# Altium footprint library CartSimple.PCBLIB: 166 footprints (part 5 of 11)
Each footprint in its own frame and in the unit in brackets; x right, y up, seen from the top. Pads: shape width x height; smd on the part's side, far side on the other; paste and mask are expansions set on the pad; w line width, h text height; cw(c..) or ccw(c..) is an arc to the next point about the centre after c.
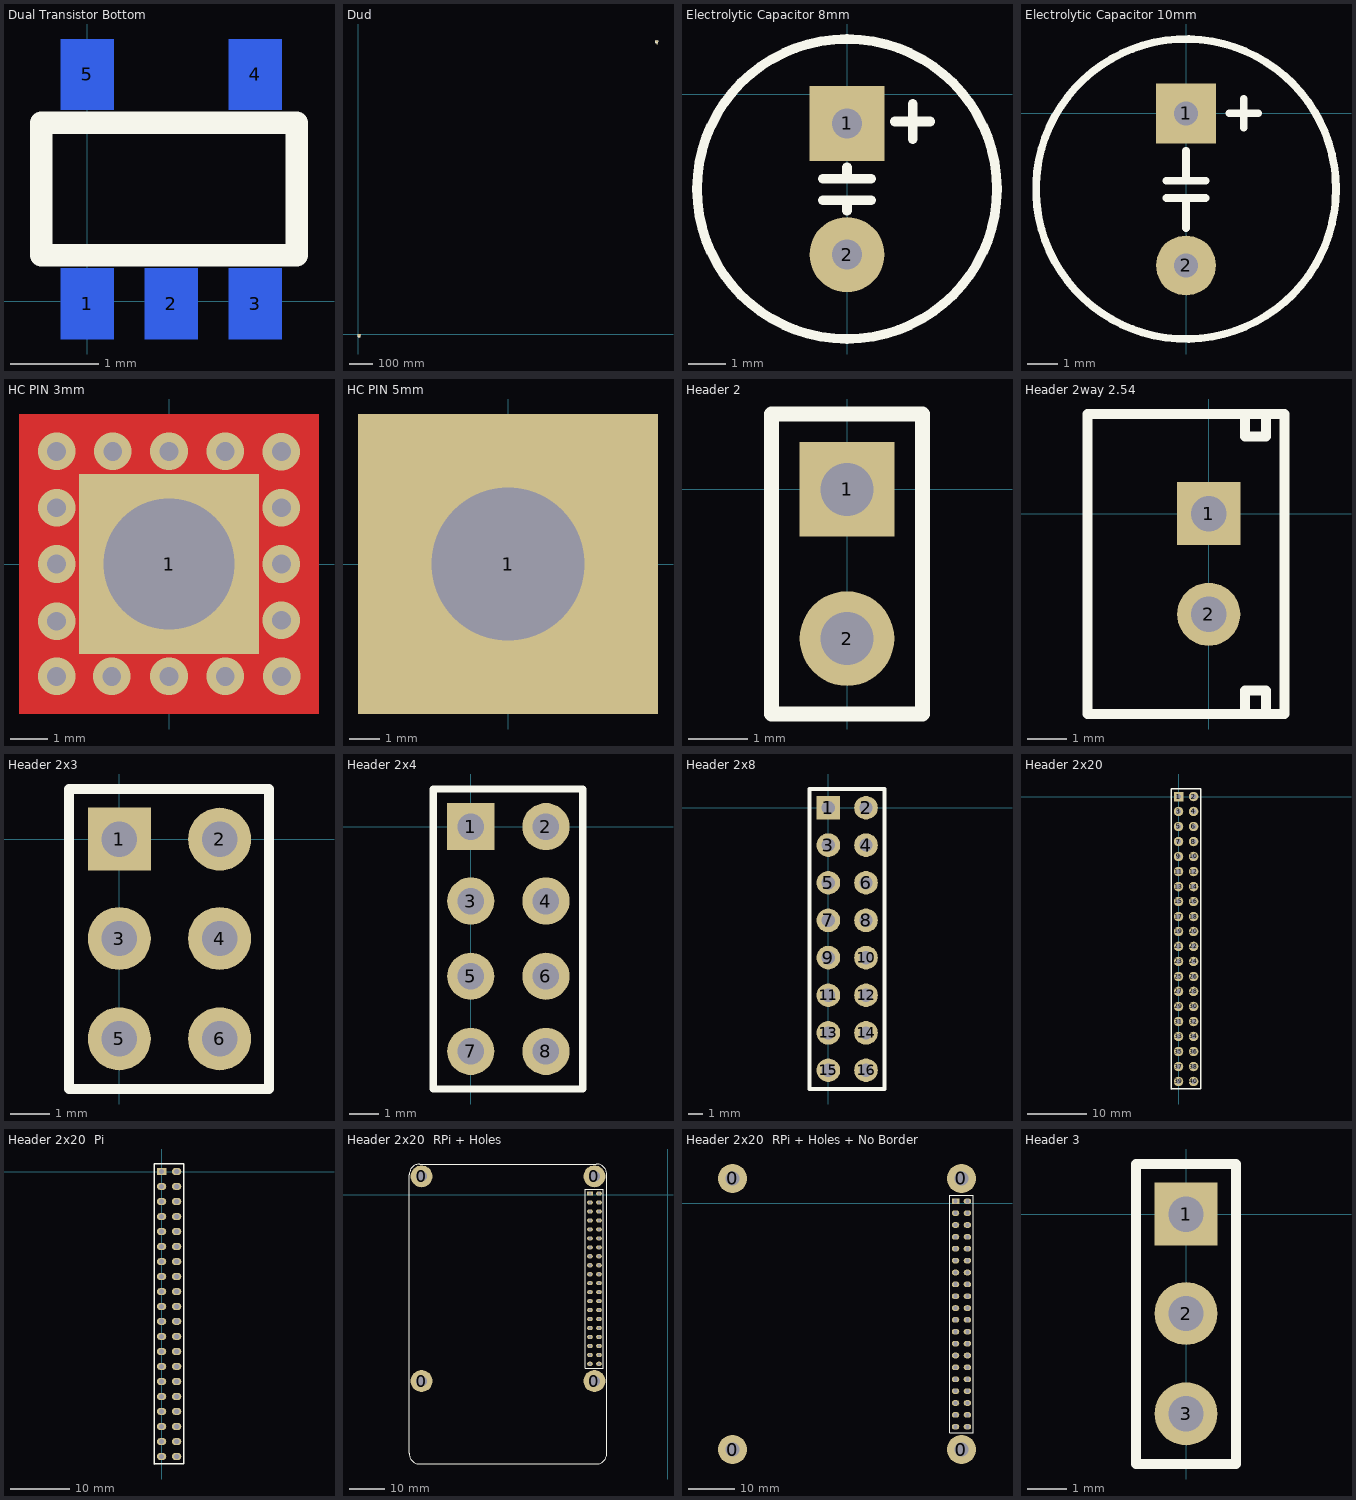
[diagram p4: the footprints below, top view; thin cyan lines are the x and y axes]

## Dual Transistor Bottom [mm]
pads (5):
  rect 0.6x0.8 smd far side: 1(0,-0.025) 2(0.95,-0.025) 3(1.9,-0.025) 4(1.9,2.575) 5(0,2.575)
Top Overlay:
  lines w0.254: -0.525,0.525 2.375,0.525 2.375,2.025 -0.525,2.025 -0.525,0.525

## Dud [mm]
pads (7):
  rect 1.5x4 smd: 1(2.45,-12.675) 1(1278.075,1243) 2(5,-12.675) 3(7.55,-12.675) 3(1283.175,1243)
  rect 10x8 smd: 2(1280.625,1254) 4(5,-4)
Top Overlay:
  lines w0.254: 0,-2.6 0.975,-2.6 0.975,-7.875 9.125,-7.875 9.125,-2.6 10,-2.6 ; 1275.625,1255.4 1276.6,1255.4 1276.6,1250.125 1284.75,1250.125 1284.75,1255.4 1285.625,1255.4 ; 0,-9.95 0,-0.95 10,-0.95 10,-9.95 0,-9.95 ; 1275.625,1248.05 1285.625,1248.05 1285.625,1257.05 1275.625,1257.05 1275.625,1248.05

## Electrolytic Capacitor 8mm [mm]
pads (2):
  rect 2x2 hole 0.8: 1(0,-0.775)
  round 2 hole 0.8: 2(0,-4.275)
Top Overlay:
  circle w0.254: c0,-2.525 r4
  lines w0.254: -0.65,-2.825 0.65,-2.825 ; -0.65,-2.25 0.65,-2.25 ; 0,-3.1 0,-2.825 ; 0,-2.25 0,-1.95 ; 1.275,-0.725 2.225,-0.725 ; 1.75,-1.2 1.75,-0.25

## Electrolytic Capacitor 10mm [mm]
pads (2):
  rect 2x2 hole 0.8: 1(0,0)
  round 2 hole 0.8: 2(0,-5.075)
Top Overlay:
  circle w0.254: c0,-2.525 r5
  lines w0.254: -0.65,-2.825 0.65,-2.825 ; -0.65,-2.25 0.65,-2.25 ; 0,-3.825 0,-2.825 ; 0,-2.25 0,-1.25 ; 1.45,0 2.4,0 ; 1.925,-0.475 1.925,0.475

## HC PIN 3mm [mm]
pads (1):
  rect 4.8x4.8 hole 3.5: 1(0,0)
via 1.5,-3 diameter 1 hole 0.5
via -1.525,-3 diameter 1 hole 0.5
via 0,-3 diameter 1 hole 0.5
via 3,-3 diameter 1 hole 0.5
via 3,0 diameter 1 hole 0.5
via 3,-1.5 diameter 1 hole 0.5
via -3,1.5 diameter 1 hole 0.5
via 0,3 diameter 1 hole 0.5
via 1.5,3 diameter 1 hole 0.5
via 3,1.5 diameter 1 hole 0.5
via 3,3 diameter 1 hole 0.5
via -1.5,3 diameter 1 hole 0.5
via -3,-3 diameter 1 hole 0.5
via -3,0 diameter 1 hole 0.5
via -3,3 diameter 1 hole 0.5
via -3,-1.525 diameter 1 hole 0.5
Top Layer:
  rectangle: -4,-4 4,4
Bottom Layer:
  rectangle: -4,-4 4,4
Top Overlay:
  lines w0.254: 3,-3 3,-3

## HC PIN 5mm [mm]
pads (1):
  rect 10x10 hole 5.1: 1(0,0)

## Header 2 [mm]
pads (2):
  rect 1.6x1.6 hole 0.9: 1(0,0)
  round 1.6 hole 0.9: 2(0,-2.525)
Top Overlay:
  lines w0.254: -1.275,-3.8 1.275,-3.8 1.275,1.275 -1.275,1.275 -1.275,-3.8

## Header 2way 2.54 [mm]
pads (2):
  rect 1.6x1.6 hole 0.9: 1(0,0)
  round 1.6 hole 0.9: 2(0,-2.55)
Top Overlay:
  lines w0.254: 0.925,-5.075 0.925,-4.475 1.45,-4.475 1.45,-5.075 ; 0.925,2.525 0.925,1.95 1.45,1.95 1.45,2.525 ; -3.075,-5.075 -3.075,2.525 1.925,2.525 1.925,-5.075 -3.075,-5.075

## Header 2x3 [mm]
pads (6):
  rect 1.6x1.6 hole 0.9: 1(0,0)
  round 1.6 hole 0.9: 2(2.55,0) 3(0,-2.525) 4(2.55,-2.525) 5(0,-5.075) 6(2.55,-5.075)
Top Overlay:
  lines w0.254: -1.275,-6.35 -1.275,1.275 3.8,1.275 3.8,-6.35 -1.275,-6.35

## Header 2x4 [mm]
pads (8):
  rect 1.6x1.6 hole 0.9: 1(0,0)
  round 1.6 hole 0.9: 2(2.55,0) 3(0,-2.525) 4(2.55,-2.525) 5(0,-5.075) 6(2.55,-5.075) 7(0,-7.625) 8(2.55,-7.625)
Top Overlay:
  lines w0.254: -1.275,-8.9 -1.275,1.275 3.8,1.275 3.8,-8.9 -1.275,-8.9

## Header 2x8 [mm]
pads (16):
  rect 1.6x1.6 hole 0.9: 1(0,0)
  round 1.6 hole 0.9: 2(2.55,0) 3(0,-2.525) 4(2.55,-2.525) 5(0,-5.075) 6(2.55,-5.075) 7(0,-7.625) 8(2.55,-7.625) 9(0,-10.15) 10(2.55,-10.15) 11(0,-12.7) 12(2.55,-12.7) 13(0,-15.25) 14(2.55,-15.25) 15(0,-17.775) 16(2.55,-17.775)
Top Overlay:
  lines w0.254: -1.275,-19.05 3.8,-19.05 3.8,1.275 -1.275,1.275 -1.275,-19.05

## Header 2x20 [mm]
pads (40):
  rect 1.6x1.6 hole 0.9: 1(0,0)
  round 1.6 hole 0.9: 2(2.55,0) 3(0,-2.525) 4(2.55,-2.525) 5(0,-5.075) 6(2.55,-5.075) 7(0,-7.625) 8(2.55,-7.625) 9(0,-10.15) 10(2.55,-10.15) 11(0,-12.7) 12(2.55,-12.7) 13(0,-15.25) 14(2.55,-15.25) 15(0,-17.775) 16(2.55,-17.775) 17(0,-20.325) 18(2.55,-20.325) 19(0,-22.85) 20(2.55,-22.85) 21(0,-25.375) 22(2.55,-25.375) 23(0,-27.925) 24(2.55,-27.925) 25(0,-30.475) 26(2.55,-30.475) 27(0,-33) 28(2.55,-33) 29(0,-35.55) 30(2.55,-35.55) 31(0,-38.1) 32(2.55,-38.1) 33(0,-40.625) 34(2.55,-40.625) 35(0,-43.175) 36(2.55,-43.175) 37(0,-45.725) 38(2.55,-45.725) 39(0,-48.25) 40(2.55,-48.25)
Top Overlay:
  lines w0.254: -1.275,-49.525 3.8,-49.525 3.8,1.275 -1.275,1.275 -1.275,-49.525

## Header 2x20  Pi [mm]
pads (40):
  rect 1.6x1.2 hole 0.9: 1(0,0)
  oval 1.6x1.2 hole 0.9: 2(2.55,0) 3(0,-2.525) 4(2.55,-2.525) 5(0,-5.075) 6(2.55,-5.075) 7(0,-7.625) 8(2.55,-7.625) 9(0,-10.15) 10(2.55,-10.15) 11(0,-12.7) 12(2.55,-12.7) 13(0,-15.25) 14(2.55,-15.25) 15(0,-17.775) 16(2.55,-17.775) 17(0,-20.325) 18(2.55,-20.325) 19(0,-22.85) 20(2.55,-22.85) 21(0,-25.375) 22(2.55,-25.375) 23(0,-27.925) 24(2.55,-27.925) 25(0,-30.475) 26(2.55,-30.475) 27(0,-33) 28(2.55,-33) 29(0,-35.55) 30(2.55,-35.55) 31(0,-38.1) 32(2.55,-38.1) 33(0,-40.625) 34(2.55,-40.625) 35(0,-43.175) 36(2.55,-43.175) 37(0,-45.725) 38(2.55,-45.725) 39(0,-48.25) 40(2.55,-48.25)
Top Overlay:
  lines w0.254: -1.275,-49.525 -1.275,1.275 3.8,1.275 3.8,-49.525 -1.275,-49.525

## Header 2x20  RPi + Holes [mm]
pads (44):
  round 6.2 hole 3: 0(-69.8,-52.75) 0(-69.8,5.25) 0(-20.8,-52.75) 0(-20.8,5.25)
  rect 1.6x1.2 hole 0.9: 1(-22.075,0.375)
  oval 1.6x1.2 hole 0.9: 2(-19.525,0.375) 3(-22.075,-2.15) 4(-19.525,-2.15) 5(-22.075,-4.7) 6(-19.525,-4.7) 7(-22.075,-7.25) 8(-19.525,-7.25) 9(-22.075,-9.775) 10(-19.525,-9.775) 11(-22.075,-12.325) 12(-19.525,-12.325) 13(-22.075,-14.875) 14(-19.525,-14.875) 15(-22.075,-17.4) 16(-19.525,-17.4) 17(-22.075,-19.95) 18(-19.525,-19.95) 19(-22.075,-22.475) 20(-19.525,-22.475) 21(-22.075,-25) 22(-19.525,-25) 23(-22.075,-27.55) 24(-19.525,-27.55) 25(-22.075,-30.1) 26(-19.525,-30.1) 27(-22.075,-32.625) 28(-19.525,-32.625) 29(-22.075,-35.175) 30(-19.525,-35.175) 31(-22.075,-37.725) 32(-19.525,-37.725) 33(-22.075,-40.25) 34(-19.525,-40.25) 35(-22.075,-42.8) 36(-19.525,-42.8) 37(-22.075,-45.35) 38(-19.525,-45.35) 39(-22.075,-47.875) 40(-19.525,-47.875)
Top Overlay:
  lines w0.254: -73.3,-73.25 ccw(c-70.3,-73.25) -70.325,-76.25 -20.3,-76.25 ccw(c-20.3,-73.25) -17.3,-73.275 -17.3,5.75 ccw(c-20.3,5.75) -20.275,8.75 -70.3,8.725 ccw(c-70.3,5.725) -73.3,5.75 -73.3,-73.25 ; -23.35,-49.15 -18.275,-49.15 -18.275,1.65 -23.35,1.65 -23.35,-49.15

## Header 2x20  RPi + Holes + No Border [mm]
pads (44):
  round 6.2 hole 3: 0(-69.8,-52.75) 0(-69.8,5.25) 0(-20.8,-52.75) 0(-20.8,5.25)
  rect 1.6x1.2 hole 0.9: 1(-22.075,0.375)
  oval 1.6x1.2 hole 0.9: 2(-19.525,0.375) 3(-22.075,-2.15) 4(-19.525,-2.15) 5(-22.075,-4.7) 6(-19.525,-4.7) 7(-22.075,-7.25) 8(-19.525,-7.25) 9(-22.075,-9.775) 10(-19.525,-9.775) 11(-22.075,-12.325) 12(-19.525,-12.325) 13(-22.075,-14.875) 14(-19.525,-14.875) 15(-22.075,-17.4) 16(-19.525,-17.4) 17(-22.075,-19.95) 18(-19.525,-19.95) 19(-22.075,-22.475) 20(-19.525,-22.475) 21(-22.075,-25) 22(-19.525,-25) 23(-22.075,-27.55) 24(-19.525,-27.55) 25(-22.075,-30.1) 26(-19.525,-30.1) 27(-22.075,-32.625) 28(-19.525,-32.625) 29(-22.075,-35.175) 30(-19.525,-35.175) 31(-22.075,-37.725) 32(-19.525,-37.725) 33(-22.075,-40.25) 34(-19.525,-40.25) 35(-22.075,-42.8) 36(-19.525,-42.8) 37(-22.075,-45.35) 38(-19.525,-45.35) 39(-22.075,-47.875) 40(-19.525,-47.875)
Top Overlay:
  lines w0.254: -23.35,-49.15 -18.275,-49.15 -18.275,1.65 -23.35,1.65 -23.35,-49.15

## Header 3 [mm]
pads (3):
  rect 1.6x1.6 hole 0.9: 1(0,0)
  round 1.6 hole 0.9: 2(0,-2.525) 3(0,-5.075)
Top Overlay:
  lines w0.254: -1.275,-6.35 1.275,-6.35 1.275,1.275 -1.275,1.275 -1.275,-6.35